# EAGLE library part 74*595 (library Jordi)
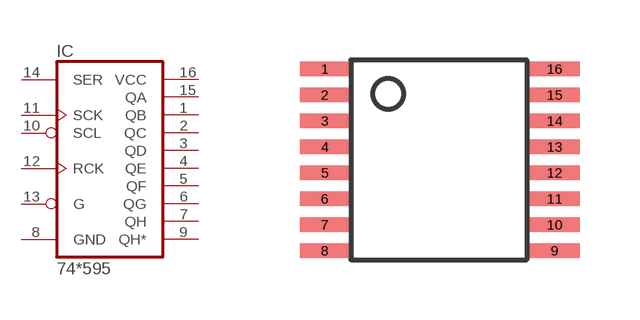
[diagram p10: symbol with the pads of TSSOP-16; footprint TSSOP-16]

Designator prefix IC

## 74595TSSOP  [TSSOP-16]
1  QB  out
2  QC  out
3  QD  out
4  QE  out
5  QF  out
6  QG  out
7  QH  out
8  GND  pwr
9  QH*  out
10  SCL  in
11  SCK  in
12  RCK  in
13  G  in
14  SER  in
15  QA  out
16  VCC  pwr

## Footprint TSSOP-16 (pad centres in mm)
smd 1.26 x 0.36: 1 -2.85,2.275; 2 -2.85,1.625; 3 -2.85,0.975; 4 -2.85,0.325; 5 -2.85,-0.325; 6 -2.85,-0.975; 7 -2.85,-1.625; 8 -2.85,-2.275; 9 2.9,-2.275; 10 2.9,-1.625; 11 2.9,-0.975; 12 2.9,-0.325; 13 2.9,0.325; 14 2.9,0.975; 15 2.9,1.625; 16 2.9,2.275